# EAGLE library part LPC812M101FD20 (library PatternAgents-NXP)
NXP LPC812M101FD20 ARM Cortex-M0+ Microcontroller 20 Pin, 30 MHz, 16 kB Flash, 4 kB SRAM, SCT Source : http://www.nxp.com/documents/data_sheet/LPC81XM.pdf Github : https://github.com/PatternAgents License : http://creativecommons.org/licenses/by-sa/3.0/ (Creative Commons 3.0) THIS SOFTWARE IS PROVIDED BY THE CONTRIBUTORS "AS IS" AND WITHOUT ANY EXPRESS OR IMPLIED WARRANTIES, INCLUDING, BUT NOT LIMITED TO, THE IMPLIED WARRANTIES OF MERCHANTABILITY AND FITNESS FOR A PARTICULAR PURPOSE ARE DISCLAIMED. IN NO EVENT SHALL THE COPYRIGHT OWNER OR CONTRIBUTORS BE LIABLE FOR ANY DIRECT, INDIRECT, INCIDENTAL, SPECIAL, EXEMPLARY, OR CONSEQUENTIAL DAMAGES (INCLUDING, BUT NOT LIMITED TO, PROCUREMENT OF SUBSTITUTE GOODS OR SERVICES; LOSS OF USE, DATA, OR PROFITS; OR BUSINESS INTERRUPTION) HOWEVER CAUSED AND ON ANY THEORY OF LIABILITY, WHETHER IN CONTRACT, STRICT LIABILITY, OR TORT (INCLUDING NEGLIGENCE OR OTHERWISE) ARISING IN ANY WAY OUT OF THE USE OF THIS SOFTWARE, EVEN IF ADVISED OF THE POSSIBILITY OF SUCH DAMAGE.
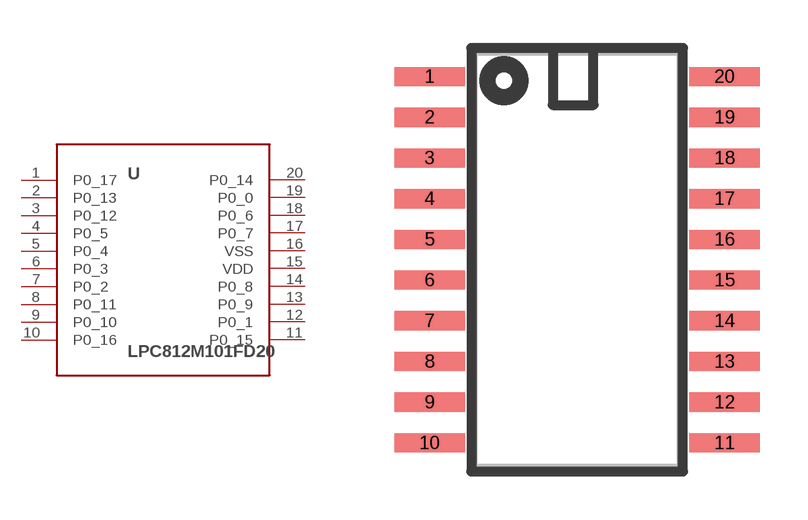
[diagram p2: symbol with the pads of SO20W; footprint SO20W]

Designator prefix U

## LPC812M101FD20  [SO20W]
1  P0_17
2  P0_13
3  P0_12
4  P0_5
5  P0_4
6  P0_3
7  P0_2
8  P0_11
9  P0_10
10  P0_16
11  P0_15
12  P0_1
13  P0_9
14  P0_8
15  VDD
16  VSS
17  P0_7
18  P0_6
19  P0_0
20  P0_14

## Footprint SO20W (pad centres in mm)
SOIC20-7P5 (SOT163-1) 20 Pin, plastic Small Outline wide package Body Dimensions : 13x7.5x2.65 mm Source : http://www.nxp.com/documents/outline_drawing/sot163-1_po.pdf Reflow : http://www.nxp.com/documents/reflow_soldering/sot163-1_fr.pdf Standards : SOT163-1/JEDEC MS-013AC Github : https://github.com/PatternAgents License : http://creativecommons.org/licenses/by-sa/3.0/ (Creative Commons 3.0) THIS SOFTWARE IS PROVIDED BY THE CONTRIBUTORS "AS IS" AND WITHOUT ANY EXPRESS OR IMPLIED WARRANTIES, INCLUDING, BUT NOT LIMITED TO, THE IMPLIED WARRANTIES OF MERCHANTABILITY AND FITNESS FOR A PARTICULAR PURPOSE ARE DISCLAIMED. IN NO EVENT SHALL THE COPYRIGHT OWNER OR CONTRIBUTORS BE LIABLE FOR ANY DIRECT, INDIRECT, INCIDENTAL, SPECIAL, EXEMPLARY, OR CONSEQUENTIAL DAMAGES (INCLUDING, BUT NOT LIMITED TO, PROCUREMENT OF SUBSTITUTE GOODS OR SERVICES; LOSS OF USE, DATA, OR PROFITS; OR BUSINESS INTERRUPTION) HOWEVER CAUSED AND ON ANY THEORY OF LIABILITY, WHETHER IN CONTRACT, STRICT LIABILITY, OR TORT (INCLUDING NEGLIGENCE OR OTHERWISE) ARISING IN ANY WAY OUT OF THE USE OF THIS SOFTWARE, EVEN IF ADVISED OF THE POSSIBILITY OF SUCH DAMAGE.
smd 2.2 x 0.6: 1 -4.6,5.715; 2 -4.6,4.445; 3 -4.6,3.175; 4 -4.6,1.905; 5 -4.6,0.635; 6 -4.6,-0.635; 7 -4.6,-1.905; 8 -4.6,-3.175; 9 -4.6,-4.445; 10 -4.6,-5.715; 11 4.6,-5.715; 12 4.6,-4.445; 13 4.6,-3.175; 14 4.6,-1.905; 15 4.6,-0.635; 16 4.6,0.635; 17 4.6,1.905; 18 4.6,3.175; 19 4.6,4.445; 20 4.6,5.715